# Altium schematic symbol library SDEC941-0B.SCHLIB: 46 symbols
Pins are listed as number, name and electrical type; pins without a type are passive.

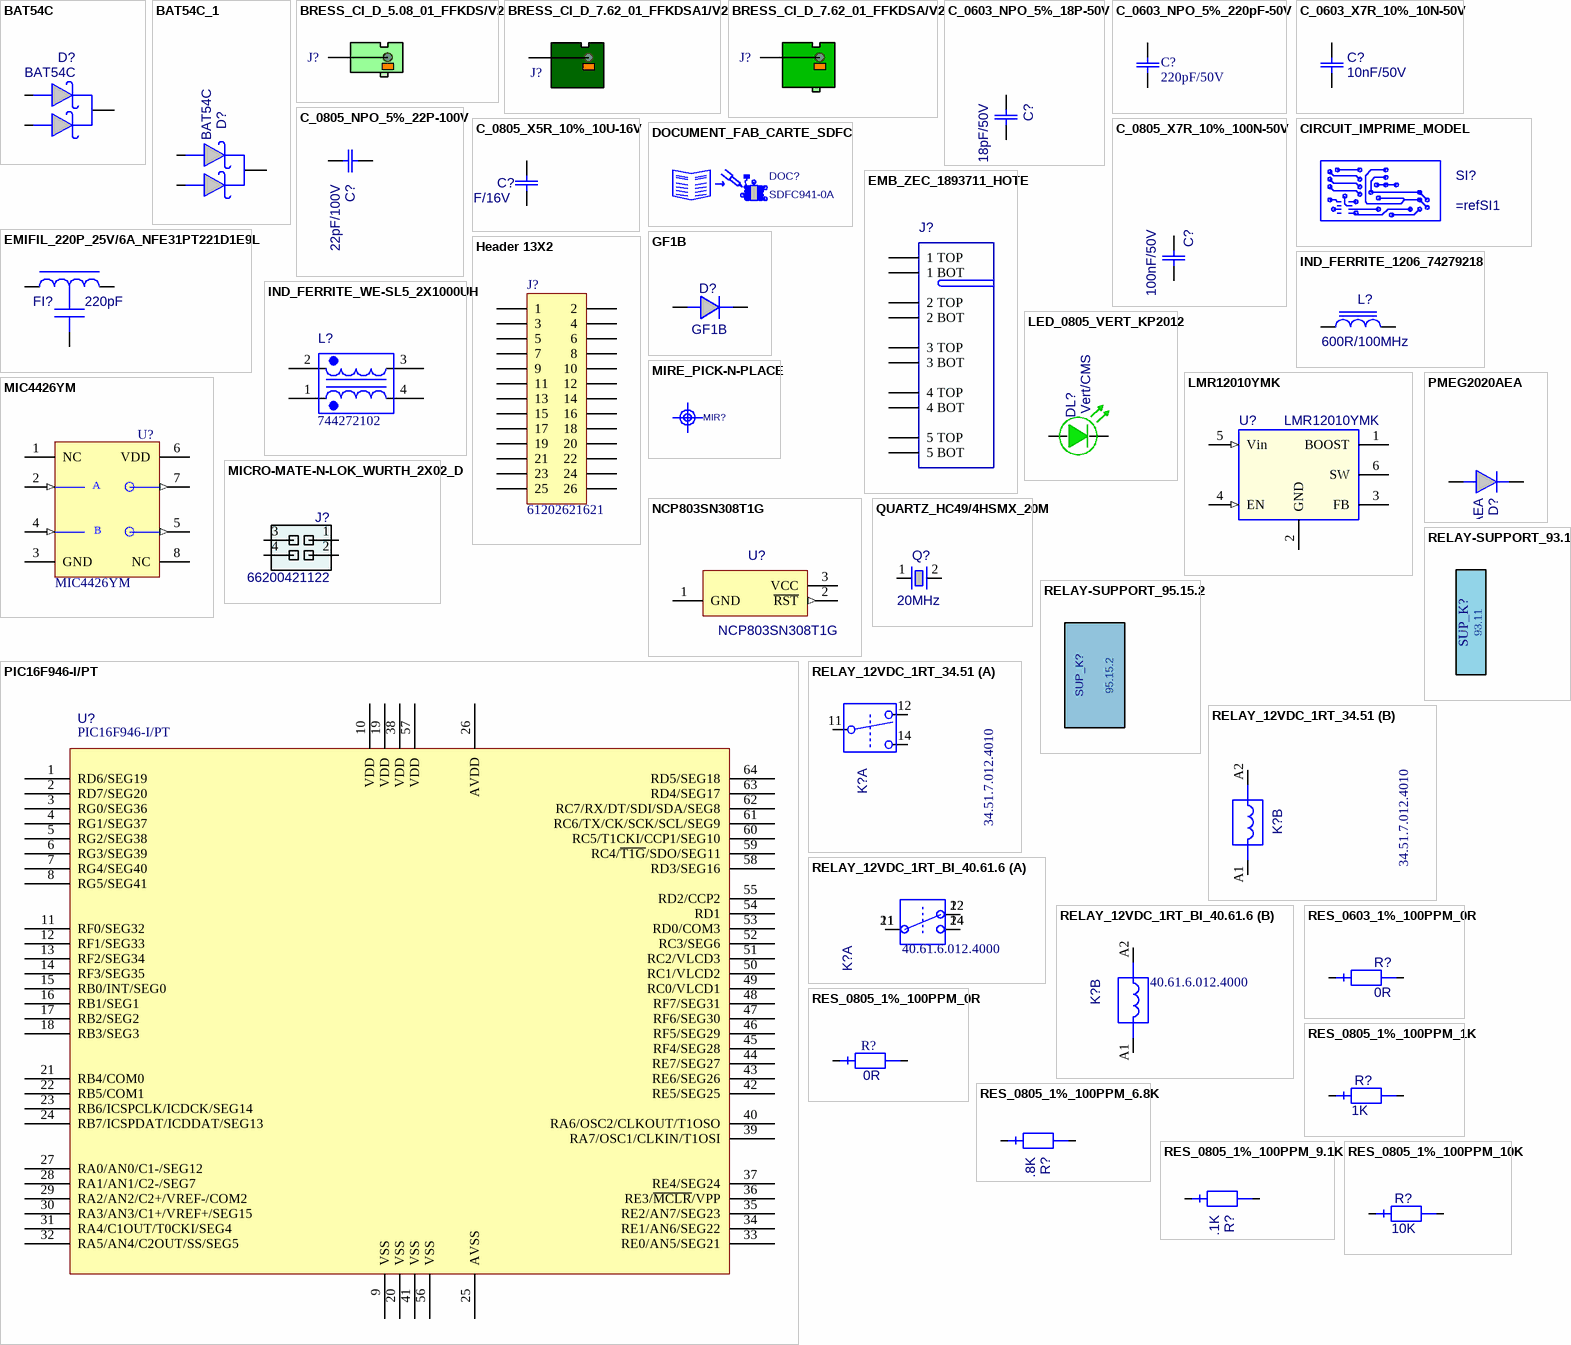
[diagram p0: symbols BAT54C to RES_0805_1%_100PPM_10K]

## BAT54C
designator D?
Diode Schottky double, BAT54 cathode com, Vrrm=30V, If=300mA, Vf=0.4Vmax, CMS; Creation: LJ (14/05/02); Reference: 000597/00; Boitier: SOT23_3L; Remarque: {Remarque}; Fabricant: NXP; Coeff: 1; Verification: LJ (14/05/02); Ref Fab: BAT54C; ComponentLink1URL: o:\_Documentation\Datasheets\NXP\BAT54_series.pdf; ComponentLink2URL: o:\_Documentation\Datasheets\_BOITIERS\ACTIF_CMS\SOT\SOT_23_3P_(Schneider).PDF; Config: *; ComponentLink1Description: Datasheet; ComponentLink2Description: Datasheet Boitier; Supplier 1: Farnell; Supplier Part Number 1: 1081192; Value: BAT54C
footprint SOT23_3L_ReflowSoldering
footprint SOT23_3L_WaveSoldering
pins: 1, 2, 3
1 alternate drawing of the same symbol

## BAT54C_1
designator D?, comment BAT54C
Diode Schottky double, BAT54 cathode com, Vrrm=30V, If=300mA, Vf=0.4Vmax, CMS; Creation: LJ (14/05/02); Reference: 000597/00; Boitier: SOT23_3L; Remarque: {Remarque}; Fabricant: NXP; Coeff: 1; Verification: LJ (14/05/02); Ref Fab: BAT54C; ComponentLink1URL: o:\_Documentation\Datasheets\NXP\BAT54_series.pdf; ComponentLink2URL: o:\_Documentation\Datasheets\_BOITIERS\ACTIF_CMS\SOT\SOT_23_3P_(Schneider).PDF; Config: *; ComponentLink1Description: Datasheet; ComponentLink2Description: Datasheet Boitier; Value: BAT54C; Supplier 1: Farnell; Supplier Part Number 1: 1081192
footprint SOT23_3L_ReflowSoldering
footprint SOT23_3L_WaveSoldering
pins: 1, 2, 3
1 alternate drawing of the same symbol

## BRESS_CI_D_5.08_01_FFKDS/V2
designator J?  (value not drawn)
Bornier à connexion par ressorts/déconnexion par levier, série FFKDS/V2, e5.08, 1x1pts, droit, juxtaposable, 320V/15A, AWG22~16, Vert/Orange; Creation: LJ (21/11/11); Boitier: 5.08x10_h15.8_e5.08_p1.3mm; Remarque: {Remarque}; Fabricant: Phoenix Contact; Ref Fab: 1790348; Coeff: 1; Value: FFKDS/V2-5,08; Verification: *; ComponentLink1URL: o:\_Documentation\Datasheets\Phoenix\FFKDS-V2_5,08_1790348.pdf; ComponentLink2URL: o:\_Documentation\Datasheets\_BOITIERS\; Config: *; ComponentLink1Description: Datasheet; ComponentLink2Description: Datasheet
footprint BRESS_FFKDS/V2-5,08_P1.3
footprint BRESS_FFKDS/V2-5,08_P1.4
pins: 1, 2

## BRESS_CI_D_7.62_01_FFKDSA1/V2
designator J?  (value not drawn)
Bornier à connexion par ressorts/déconnexion par levier, série FFKDSA1/V2, e7.62, 1x1pts, droit, juxtaposable, 500V/17.5A, AWG22~16, Vert/Orange; Creation: LJ (21/11/11); Boitier: 7.62x10_h15.8_e7.62_p1.3mm; Remarque: {Remarque}; Fabricant: Phoenix Contact; Ref Fab: 1790487; Coeff: 1; Value: FFKDSA1/V2-7,62; Verification: *; ComponentLink1URL: o:\_Documentation\Datasheets\Phoenix\FFKDSA1-V2_7,62_1790487.pdf; ComponentLink2URL: o:\_Documentation\Datasheets\_BOITIERS\; Config: *; ComponentLink1Description: Datasheet; ComponentLink2Description: Datasheet
footprint BRESS_FFKDSA1/V2-7,62_P1.3
footprint BRESS_FFKDSA1/V2-7,62_P1.4
pins: 1, 2

## BRESS_CI_D_7.62_01_FFKDSA/V2
designator J?  (value not drawn)
Bornier à connexion par ressorts/déconnexion par levier, série FFKDSA/V2, e7.62, 1x1pts, droit, juxtaposable, 500V/17.5A, AWG22~16, Vert/Orange; Creation: LJ (21/11/11); Boitier: 7.62x10_h15.8_e7.62_p1.3mm; Remarque: {Remarque}; Fabricant: Phoenix Contact; Ref Fab: 1790377; Coeff: 1; Value: FFKDSA/V2-7,62; Verification: *; ComponentLink1URL: o:\_Documentation\Datasheets\Phoenix\FFKDSA-V2_7,62_1790377.pdf; ComponentLink2URL: o:\_Documentation\Datasheets\_BOITIERS\; Config: *; ComponentLink1Description: Datasheet; ComponentLink2Description: Datasheet
footprint BRESS_FFKDSA/V2-7,62_P1.3
footprint BRESS_FFKDSA/V2-7,62_P1.4
pins: 1, 2

## C_0603_NPO_5%_18P-50V
designator C?  value 18pF/50V  (hidden comment: C_0603_NPO_5%_18P-50V)
Condensateur céramique, NPO, 5%, CMS 0603, 18pF/50V; Creation: FB (04/07/12); Boitier: 0603; Remarque: {Remarque}; Fabricant: Kemet; Ref Fab: C0603C180J5GAC; Coeff: 1; ComponentLink2URL: o:\_Documentation\Datasheets\_BOITIERS\PASSIF_CMS\; Config: *; ComponentLink1Description: Datasheet; ComponentLink2Description: Datasheet Boitier; Supplier 1: Farnell; Supplier Part Number 1: 1414620
footprint 0603_ReflowSoldering_CAP
footprint 0603_WaveSoldering_CAP
pins: 1, 2

## C_0603_NPO_5%_220pF-50V
designator C?  Capacitance: 220pF/50V  (hidden comment: C_0603_NPO_5%_220pF-50V)
Multilayer Ceramic Capacitors MLCC - SMD/SMT 50volts 220pF C0G 5%; Manufacturer: Kemet; Manufacturer Part Number: C0603C221J5GACTU; Temperature Coefficient: C0G, NP0; Supplier 1: Digi-Key; RoHS: RoHS Compliant; Category: Capacitors; Stock 1: 173034; Pricing 1: 1=0.1, 10=0.042, 50=0.0228, 100=0.0193, 250=0.01576, 500=0.01348, 1000=0.0105 (USD); Packaging: Cut Tape (CT); Part Status: Active; Tolerance: ±5%; Operating Temperature: -55°C ~ 125°C; Features: Low ESL; Ratings: -; Applications: General Purpose; Failure Rate: -; Mounting Type: Surface Mount, MLCC; Package / Case: 0603 (1608 Metric); Size / Dimension: 0.063" L x 0.031" W (1.60mm x 0.80mm); Height - Seated (Max): -; Thickness (Max): 0.034" (0.87mm); Lead Spacing: -; Lead Style: -; ComponentLink1URL: http://www.kemet.com/docfinder?Partnumber=C0603C221J5GACTU; ComponentLink1Description: http://www.kemet.com/docfinder?Partnumber=C0603C221J5GACTU; Supplier Part Number 1: 399-1066-1-ND
footprint 0603_ReflowSoldering_CAP (Footprint not found)
pins: 1, 2

## C_0603_X7R_10%_10N-50V
designator C?  value 10nF/50V  (hidden comment: C_0603_X7R_10%_10N-50V)
Condensateur céramique, X7R, 10%, CMS 0603; Creation: CHD; Boitier: 0603; Remarque: {Remarque}; Coeff: 1; Fabricant: Kemet; Ref Fab: C0603C103K5RAC; ComponentLink1URL: o:\_Documentation\Datasheets\Kemet\Condos_Ceramic_CMS.pdf; ComponentLink2URL: o:\_Documentation\Datasheets\_BOITIERS\PASSIF_CMS\; Config: *; ComponentLink1Description: Datasheet; ComponentLink2Description: Datasheet Boitier; Supplier 1: Farnell; Supplier Part Number 1: 1414609
footprint 0603_ReflowSoldering_CAP
footprint 0603_WaveSoldering_CAP
pins: 1, 2
1 alternate drawing of the same symbol

## C_0805_NPO_5%_22P-100V
designator C?  value 22pF/100V  (hidden comment: C_0805_NPO_5%_22P-100V)
Condensateur céramique, NPO, 5%, CMS 0805; Creation: LJ; Verification: LJ (28/05/04); Boitier: 0805; Remarque: {Remarque}; Fabricant: AVX; Ref Fab: 08051A220JAT2A; Coeff: 1; ComponentLink1URL: o:\_Documentation\Datasheets\BC_Components\Condo_CMS_NPO-X7R-Y5V.pdf; ComponentLink2URL: o:\_Documentation\Datasheets\_BOITIERS\PASSIF_CMS\RC_0805_(2x1,25)_(Schneider).PDF; Config: *; ComponentLink1Description: Datasheet; ComponentLink2Description: Datasheet Boitier; Supplier 1: Farnell; Supplier 2: Mouser; Supplier Part Number 1: 317500; Supplier Part Number 2: 581-08051A220J
footprint 0805_ReflowSoldering_CAP
footprint 0805_WaveSoldering_CAP
pins: 1, 2
1 alternate drawing of the same symbol

## C_0805_X5R_10%_10U-16V
designator C?  value 10uF/16V  (hidden comment: C_0805_X5R_10%_10U-16V)
Condensateur céramique, X5R, 10%, CMS 0805; Creation: LJ (12/09/11); Reference: 001715/00; Boitier: 0805; Remarque: {Remarque}; Coeff: 1; Fabricant: Murata; Ref Fab: GRM219R61C106KA73D; Verification: *; ComponentLink1URL: o:\_Documentation\Datasheets\; ComponentLink2URL: o:\_Documentation\Datasheets\_Boitiers\PASSIF_CMS\RC_0805_(2x1,25)_(Schneider).pdf; Config: *; ComponentLink1Description: Datasheet; ComponentLink2Description: Datasheet Boitier
footprint 0805_ReflowSoldering_CAP
footprint 0805_WaveSoldering_CAP
pins: 1, 2

## C_0805_X7R_10%_100N-50V
designator C?  value 100nF/50V  (hidden comment: C_0805_X7R_10%_100N-50V)
Condensateur céramique, X7R, 10%, CMS 0805; Creation: LJ; Verification: LJ (28/05/04); Reference: 000042/00; Boitier: 0805; Remarque: {Remarque}; Fabricant: AVX; Ref Fab: 08055C104KAT2A; Coeff: 1; ComponentLink1URL: o:\_Documentation\Datasheets\BC_Components\Condo_CMS_NPO-X7R-Y5V.pdf; ComponentLink2URL: o:\_Documentation\Datasheets\_BOITIERS\PASSIF_CMS\RC_0805_(2x1,25)_(Schneider).PDF; Config: *; ComponentLink1Description: Datasheet; ComponentLink2Description: Datasheet Boitier; Supplier 1: Farnell; Supplier Part Number 1: 499687
footprint 0805_ReflowSoldering_CAP
footprint 0805_WaveSoldering_CAP
pins: 1, 2

## CIRCUIT_IMPRIME_MODEL
designator SI?
Circuit Imprimé; Creation: LJ; Verification: LJ (15/11/04); Remarque: {Remarque}; Fabricant: Valentinéa; Coeff: 1; Value: *; Boitier: *; Ref Fab: =refSI1; ComponentLink1URL: \\SRV_backup\datasheet\; ComponentLink2URL: \\SRV_backup\datasheet\_BOITIERS\; Config: *; ComponentLink1Description: Datasheet; ComponentLink2Description: Datasheet Boitier; Reference: =refSI1
footprint CIRCUIT_IMPRIME_SI_STD

## DOCUMENT_FAB_CARTE_SDFC
designator DOC?  Reference: SDFC941-0A  (hidden comment: DOCUMENT_FAB_CARTE_SDFC)  (mechanical)
Document de Fabrication pour la Carte SC{Num SC}-{Version SC}; Creation: LJ; Coeff: 0; Verification: *; Boitier: *; Fabricant: *; Ref Fab: *; Config: *; ComponentLink1URL: http://192.168.0.202/index.php/Accueil; ComponentLink2URL: http://192.168.0.202/index.php/Accueil; ComponentLink1Description: Datasheet; ComponentLink2Description: Datasheet Boitier

## EMB_ZEC_1893711_HOTE
designator J?  (value not drawn)  (no BOM)
Implantation CI pour connecteur ZEC 1,0/5-ST-3,5 C1 R1,5 (ref 1893711); Creation: JPL (18/07/12); Fabricant: Phoenix Contact; Coeff: 1; Config: *; ComponentLink1Description: Datasheet; ComponentLink2Description: Datasheet Boitier
footprint EMB_ZEC_1893711_HOTE
footprint EMB_ZEC_1893711_HOTE_NOBOTT
footprint EMB_ZEC_1893711_HOTE+EMBASE3D
pins: 1 1 TOP, 2 2 TOP, 3 3 TOP, 4 4 TOP, 5 5 TOP, 6 1 BOT, 7 2 BOT, 8 3 BOT, 9 4 BOT, 10 5 BOT

## EMIFIL_220P_25V/6A_NFE31PT221D1E9L
designator FI?  value 220pF  (hidden comment: EMIFIL_220P_25V/6A_NFE31PT221D1E9L)
Filtre EMI selfique-capacitif, -20/+50%, 25Vcc/6A, -40/+85°C, 220pF; Creation: LJ; Boitier: 1206; Remarque: Anciennement série NFM60R...; Reference: 000785/00; Fabricant: Murata; Coeff: 1; Verification: *; Ref Fab: NFE31PT221D1E9L; ComponentLink1URL: o:\_Documentation\Datasheets\Murata\EMIFIL_NFE31P.pdf; ComponentLink2URL: o:\_Documentation\Datasheets\_BOITIERS\; Config: *; ComponentLink1Description: Datasheet; ComponentLink2Description: Datasheet Boitier
footprint NFE31P
pins: 1, 2, 3
2 alternate drawings of the same symbol

## GF1B
designator D?
Diode de Redressement, Vrrm=100V, If=1A, Vf=1.1V, CMS; Creation: LJ; Reference: 000919/00; Boitier: DO214BA; Fabricant: Fairchild; Coeff: 1; Ref Fab: GF1B; ComponentLink1URL: o:\_Documentation\Datasheets\Fairchild\GF1A-M.PDF; ComponentLink2URL: o:\_Documentation\Datasheets\_BOITIERS\ACTIF_CMS\; Config: *; ComponentLink1Description: Datasheet; ComponentLink2Description: Datasheet Boitier; Value: GF1B; Supplier 1: Farnell; Supplier 2: Mouser; Supplier Part Number 1: 1467477; Supplier Part Number 2: 512-GF1B
footprint DO214BA-P
pins: A, K
1 alternate drawing of the same symbol

## Header 13X2
designator J?, comment 61202621621
26 Positions Header, Shrouded Connector 0.100" (2.54mm) Through Hole Gold; Manufacturer: Wurth Electronics Inc; Supplier 1: Digi-Key; Supplier Part Number 1: 732-2097-ND; Manufacturer Part Number: 61202621621
footprint HDR2X13 (Connector; Header; 13x2 Position)
signal-integrity model Connector
pins: 1, 2, 3, 4, 5, 6, 7, 8, 9, 10, 11, 12, 13, 14, 15, 16, 17, 18, 19, 20, 21, 22, 23, 24, 25, 26

## IND_FERRITE_1206_74279218
designator L?  value 600R/100MHz  (hidden comment: IND_FERRITE_1206_74279218)
Inductance à ferrite multicouches CMS, imp=600R@100MHz, +/-25%, Rdc=100mR, I=2A; Creation: LJ (12/08/08); Reference: 000049/00; Boitier: 1206; Remarque: Alternative aux selfs de choc; Coeff: 1; Fabricant: Wurth Elektronik; Verification: *; ComponentLink1URL: o:\_Documentation\Datasheets\Wurth_Elektronik\74279218.pdf; ComponentLink2URL: o:\_Documentation\Datasheets\_Boitiers\PASSIF_CMS\RC_1206_(3,2x1,6)_(Schneider).pdf; Config: *; ComponentLink1Description: Datasheet; ComponentLink2Description: Datasheet Boitier; Ref Fab: 74279218
footprint 1206_ReflowSoldering_FERRITE
footprint 1206_WaveSoldering_FERRITE
pins: 1, 2

## IND_FERRITE_WE-SL5_2X1000UH
designator L?, comment 744272102
Common Mode Filters / Chokes WE-SL5 Bifilar 2x1000uH 950mA; Manufacturer: Wurth Electronics Inc; Filter Type: Signal Line; Number of Lines: 2; Impedance @ Frequency: 3.6 kOhm @ 100kHz; Inductance @ Frequency: 1mH @ 100kHz; DC Resistance (DCR) (Max): 180 mOhm; Voltage Rating - DC: 80V; Supplier 1: Digi-Key; Manufacturer Part Number: 744272102; RoHS: RoHS Compliant; Category: Filters; Stock 1: 4893; Pricing 1: 1=3.57, 10=3.255, 50=2.94, 100=2.835 (USD); Packaging: Cut Tape (CT); Part Status: Active; Current Rating (Max): 950mA; Voltage Rating - AC: -; Operating Temperature: -40°C ~ 125°C; Ratings: -; Approvals: -; Features: -; Mounting Type: Surface Mount; Size / Dimension: 0.394" L x 0.343" W (10.00mm x 8.70mm); Height (Max): 0.256" (6.50mm); Package / Case: Horizontal, 4 PC Pad; ComponentLink1URL: http://katalog.we-online.de/pbs/datasheet/744272102.pdf; ComponentLink1Description: http://katalog.we-online.de/pbs/datasheet/744272102.pdf; Supplier Part Number 1: 732-1493-1-ND
footprint 744272102 (Footprint not found)
pins: 1, 2, 3, 4

## LED_0805_VERT_KP2012
designator DL?  value Vert/CMS  (hidden comment: LED_0805_VERT_KP2012)
LED CMS 0805, Vert, Vf 2.5V@20mA (4-15mCd), 525nm, vue 120°; Creation: LJ (12/01/09); Reference: 000037/00; Boitier: 0805; Remarque: {Remarque}; Fabricant: Kingbright; Ref Fab: KP-2012SGC; Coeff: 1; Verification: *; ComponentLink1URL: o:\_Documentation\Datasheets\Kingbright\Leds_0805_Green_KP-2012SGC.pdf; ComponentLink2URL: o:\_Documentation\Datasheets\Kingbright\Leds_0805_Green_KP-2012SGC.pdf; Config: *; ComponentLink1Description: Datasheet; ComponentLink2Description: Datasheet Boitier; Supplier 1: Farnell; Supplier Part Number 1: 1318243
footprint LED_0805_KPx_Green
pins: A, K
1 alternate drawing of the same symbol

## LMR12010YMK
designator U?
Régulateur ajustable step down, 0.8~20V, 1A, Vin=3~20V, -40/+125°C, CMS; Creation: PDP (10/07/12); Verification: LJ (02/08/12); Boitier: TSOT-6; Remarque: {Remarque}; Coeff: 1; Fabricant: National Semiconductor; ComponentLink1URL: O:\_Documentation\Datasheets\National_SemiConductors\LMR12010.pdf; ComponentLink2URL: o:\_Documentation\Datasheets\_Boitiers\ACTIF_CMS\; ComponentLink1Description: Datasheet; ComponentLink2Description: Datasheet Boitier; Ref Fab: LMR12010YMK; Value: LMR12010YMK; Supplier 1: Farnell; Supplier Part Number 1: 2060645; Supplier 2: Mouser; Supplier Part Number 2: 926-LMR12010YMKENOPB
footprint SOT23_6L
pins: 1 BOOST, 2 GND (power), 3 FB, 4 EN (in), 5 Vin (in), 6 SW

## MIC4426YM
designator U?
Dual High-Speed 1.5A MOSFET Driver, CMS; Creation: CHD; Verification: LJ (); Boitier: SO8_L150; Remarque: {Remarque}; Fabricant: Micrel; Coeff: 1; Ref Fab: MIC4426YM; ComponentLink1URL: o:\_Documentation\Datasheets\; ComponentLink2URL: o:\_Documentation\Datasheets\_Boitiers\ACTIF_CMS\SOIC\SOIC_08_e1,27_L150_(Schneider).PDF; Config: *; ComponentLink1Description: Datasheet; ComponentLink2Description: Datasheet Boitier; Value: MIC4426YM
footprint SOIC_08_E1,27_L150_ReflowSoldering
footprint SOIC_08_E1,27_L150_WaveSoldering
footprint SOIC_08_E1,27_L150_WaveSoldering
pins: 1 NC, 2 INA (in), 3 GND (power), 4 INB (in), 5 ~{OUTB} (out), 6 VDD (power), 7 ~{OUTA} (out), 8 NC
text: A; B

## MICRO-MATE-N-LOK_WURTH_2X02_D
designator J?  value 66200421122  (hidden comment: MICRO-MATE-N-LOK_WURTH_2X02_D)
Embase type Micro Mate-n-Lok, e3mm, 4pts, droit, cont. étamés 20mR, 250V/5A, Iso 1500V, -40/+105°C; Creation: LJ (01/08/12); Boitier: Micro Mate-n-Lok 4 D; Remarque: {Remarque}; Fabricant: Wurth Elektronik; Coeff: 1; Ref Fab: 66200421122; ComponentLink1URL: o:\_Documentation\Datasheets\; ComponentLink2URL: o:\_Documentation\Datasheets\; Config: *; ComponentLink1Description: Datasheet; ComponentLink2Description: Datasheet Boitier
footprint MICRO-MATE-N-LOK_2X02_D_3-794630-4
footprint MICRO-MATE-N-LOK_WURTH+TYCO_2X02_D
pins: 1, 2, 3, 4

## MIRE_PICK-N-PLACE
designator MIR?  (value not drawn)
Mire pour machine de placement CMS "Pick'n Place"; Creation: LJ (25/10/12); Config: NC; Coeff: 0; Value: *
footprint MIRE_PICK-N-PLACE_D1MM_VE3MM

## NCP803SN308T1G
designator U?
Superviseur de Reset pour microcontrolleur 3.08V -Pin SOT-23, CMS; Boitier: SOT23_3L; Remarque: {Remarque}; Creation: CHD; Fabricant: ON; Coeff: 1; Ref Fab: NCP803SN308T1G; ComponentLink1URL: o:\_Documentation\Datasheets\; ComponentLink2URL: o:\_Documentation\Datasheets\_BOITIERS\ACTIF_CMS\SOT\SOT_23_3P_(Schneider).PDF; Config: *; ComponentLink1Description: Datasheet; Value: NCP803SN308T1G
footprint SOT23_3L_ReflowSoldering
footprint SOT23_3L_WaveSoldering
pins: 1 GND (power), 2 ~{RST} (out), 3 VCC (power)

## PIC16F946-I/PT
designator U?
Microcontrôleur 8bit; Creation: CHD; Boitier: QFP64_e0.50_12x12mm; Remarque: {Remarque}; Fabricant: Microchip; Coeff: 1; Ref Fab: PIC16F946-I/PT; ComponentLink1URL: o:\_Documentation\Datasheets\MicroChip\PIC16F913_914_916_917_946.pdf; ComponentLink2URL: o:\_Documentation\Datasheets\_Boitiers\; Config: *; ComponentLink1Description: Datasheet; ComponentLink2Description: Datasheet Boitier; Value: PIC16F946-I/PT
footprint QFP_064_E0,50_10X10MM
pins: 1 RD6/SEG19, 2 RD7/SEG20, 3 RG0/SEG36, 4 RG1/SEG37, 5 RG2/SEG38, 6 RG3/SEG39, 7 RG4/SEG40, 8 RG5/SEG41, 9 VSS, 10 VDD, 11 RF0/SEG32, 12 RF1/SEG33, 13 RF2/SEG34, 14 RF3/SEG35, 15 RB0/INT/SEG0, 16 RB1/SEG1, 17 RB2/SEG2, 18 RB3/SEG3, 19 VDD, 20 VSS, 21 RB4/COM0, 22 RB5/COM1, 23 RB6/ICSPCLK/ICDCK/SEG14, 24 RB7/ICSPDAT/ICDDAT/SEG13, 25 AVSS, 26 AVDD, 27 RA0/AN0/C1-/SEG12, 28 RA1/AN1/C2-/SEG7, 29 RA2/AN2/C2+/VREF-/COM2, 30 RA3/AN3/C1+/VREF+/SEG15, 31 RA4/C1OUT/T0CKI/SEG4, 32 RA5/AN4/C2OUT/SS/SEG5, 33 RE0/AN5/SEG21, 34 RE1/AN6/SEG22, 35 RE2/AN7/SEG23, 36 RE3/~{MCLR}/VPP, 37 RE4/SEG24, 38 VDD, 39 RA7/OSC1/CLKIN/T1OSI, 40 RA6/OSC2/CLKOUT/T1OSO, 41 VSS, 42 RE5/SEG25, 43 RE6/SEG26, 44 RE7/SEG27, 45 RF4/SEG28, 46 RF5/SEG29, 47 RF6/SEG30, 48 RF7/SEG31, 49 RC0/VLCD1, 50 RC1/VLCD2, 51 RC2/VLCD3, 52 RC3/SEG6, 53 RD0/COM3, 54 RD1, 55 RD2/CCP2, 56 VSS, 57 VDD, 58 RD3/SEG16, 59 RC4/~{T1G}/SDO/SEG11, 60 RC5/T1CKI/CCP1/SEG10, 61 RC6/TX/CK/SCK/SCL/SEG9, 62 RC7/RX/DT/SDI/SDA/SEG8, 63 RD4/SEG17, 64 RD5/SEG18
1 alternate drawing of the same symbol

## PMEG2020AEA
designator D?
Diode Schottky, Vrrm=20V, If=2A, Vf=450V, CMS; Creation: PDP 10/07/12; Verification: LJ (02/08/12); Boitier: SOD323; Remarque: {Remarque}; Coeff: 1; Fabricant: NXP; ComponentLink1URL: o:\_Documentation\Datasheets\NXP\PMEG2020AEA.PDF; ComponentLink2URL: o:\_Documentation\Datasheets\_BOITIERS\ACTIF_CMS\SOD\SOD_80_(MLL34)_(Schneider).PDF; Config: *; ComponentLink1Description: Datasheet; ComponentLink2Description: Datasheet Boitier; Ref Fab: PMEG2020AEA; Value: PMEG2020AEA; Supplier 1: Farnell; Supplier Part Number 1: 8737940; Supplier 2: Mouser; Supplier Part Number 2: 771-PMEG2020AEA-T/R
footprint SOD323_ReflowSoldering
footprint SOD323_WaveSoldering
pins: A, K

## QUARTZ_HC49/4HSMX_20M
designator Q?  value 20MHz  (hidden comment: QUARTZ_HC49/4HSMX_20M)
Quartz CMS série HCM49 (équiv HC49/US), -10/+60°C, +/-30ppm, 18pF; Creation: FB (04/09/12); Fabricant: Citizen; Ref Fab: HCM49 20.000MABJ-UT; Coeff: 1; Verification: *; Boitier: HC49/4HSMX; Remarque: *; ComponentLink1URL: O:\_Documentation\Datasheets\Citizen\Quartz_HC49-US_HCM49.pdf; ComponentLink2URL: o:\_Documentation\Datasheets\_BOITIERS\; Config: *; ComponentLink1Description: Datasheet; ComponentLink2Description: Datasheet Boitier; Supplier 1: Farnell; Supplier Part Number 1: 1611736; Supplier 2: Mouser; Supplier Part Number 2: 695-HCM49-20-U
footprint QUARTZ_HC49_11.5X5_CMS
pins: 1, 2
1 alternate drawing of the same symbol

## RELAY-SUPPORT_93.11
designator SUP_K?  value 93.11  (hidden comment: RELAY-SUPPORT_93.11)
Suppor série 93 pour relais Finder séries 34, 250V/6A, Bleu; Creation: LJ (24/11/11); Remarque: {Remarque}; Coeff: 1; Fabricant: Finder; Ref Fab: 93.11; ComponentLink1URL: o:\_Documentation\Datasheets\Finder\Relais_Serie_34.pdf; ComponentLink2URL: o:\_Documentation\Datasheets\; Config: *; ComponentLink1Description: Datasheet; ComponentLink2Description: Datasheet Boitier
footprint RELAY-SUPPORT_FINDER_SERIE93
1 alternate drawing of the same symbol

## RELAY-SUPPORT_95.15.2
designator SUP_K?  value 95.15.2  (hidden comment: RELAY-SUPPORT_95.15.2)
Suppor série 95 pour relais Finder séries 40, 250V/10A, Bleu, sans Etrier; Creation: LJ (11/06/12); Remarque: {Remarque}; Coeff: 1; Fabricant: Finder; Ref Fab: 95.15.2; ComponentLink1URL: o:\_Documentation\Datasheets\Finder\Relais_Serie_40.pdf; ComponentLink2URL: o:\_Documentation\Datasheets\; Config: *; ComponentLink1Description: Datasheet; ComponentLink2Description: Datasheet Boitier
footprint RELAY-SUPPORT_FINDER_SERIE95
1 alternate drawing of the same symbol

## RELAY_12VDC_1RT_34.51
designator K?  value 34.51.7.012.4010  (hidden comment: RELAY_12VDC_1RT_34.51)
Relais 1RT, 12Vdc, série 34.51, Rc=1940R, Sw:250Vac/6A, Ron=? (AgSnO2); Creation: CHD; Verification: LJ (24/11/11); Boitier: DIP12 Form C; Remarque: {Remarque}; Fabricant: Finder; Coeff: 1; Ref Fab: 34.51.7.012.4010; ComponentLink1URL: o:\_Documentation\Datasheets\Finder\Relais_Serie_34.pdf; ComponentLink2URL: o:\_Documentation\Datasheets\_BOITIERS\; Config: *; ComponentLink1Description: Datasheet; ComponentLink2Description: Datasheet Boitier
footprint RELAY_FINDER_34.51
footprint RELAY_FINDER_34.51_+SUPPORT_93
part A pins: 11 COM, 12 NC, 14 NO
part B pins: A1, A2

## RELAY_12VDC_1RT_BI_40.61.6
designator K?  value 40.61.6.012.4000  (hidden comment: RELAY_12VDC_1RT_BI_40.61.6)
Relais 1RT, 12Vdc, série 40.61.6 (bistable), Rc=900R, Sw:250Vac/16A, Ron=? (AgSnO2); Creation: CHD; Verification: LJ (24/11/11); Boitier: type DIP16; Remarque: {Remarque}; Fabricant: Finder; Coeff: 1; Ref Fab: 40.61.6.012.4000; ComponentLink1URL: o:\_Documentation\Datasheets\Finder\Relais_Serie_40.pdf; ComponentLink2URL: o:\_Documentation\Datasheets\_BOITIERS\; Config: *; ComponentLink1Description: Datasheet; ComponentLink2Description: Datasheet Boitier
footprint RELAY_FINDER_40.61
footprint RELAY_FINDER_40.61_+SUPPORT_95
part A pins: 11 COM, 12 NC, 14 NO, 21 COM, 22 NC, 24 NO
part B pins: A1, A2

## RES_0603_1%_100PPM_0R
designator R?  value 0R  (hidden comment: RES_0603_1%_100PPM_0R)
Résistance, 0.100W, 1%, 100ppm, 75V, 0R; Creation: FB (04/07/12); Boitier: 0603; Remarque: {Remarque}; Fabricant: Vishay; Ref Fab: CRCW06030000Z0EA; Coeff: 1; Verification: *; ComponentLink1URL: O:\_Documentation\Datasheets\Vishay\Resistances_D-CRCWe3.pdf; ComponentLink2URL: o:\_Documentation\Datasheets\_BOITIERS\PASSIF_CMS\; Config: *; ComponentLink1Description: Datasheet; ComponentLink2Description: Datasheet Boitier; Supplier 1: Farnell; Supplier Part Number 1: 1469739
footprint 0603_ReflowSoldering_RES
footprint 0603_WaveSoldering_RES
pins: 1, 2
1 alternate drawing of the same symbol

## RES_0805_1%_100PPM_0R
designator R?  value 0R  (hidden comment: RES_0805_1%_100PPM_0R)
Résistance CMS 0805, 0.125W, 1%, 100ppm, 150V; Creation: LJ (06/02/09); Reference: 000052/00; Boitier: 0805; Remarque: {Remarque}; Fabricant: Welwyn; Ref Fab: WCR0805-R005JI; Coeff: 1; Verification: *; ComponentLink1URL: o:\_Documentation\Datasheets\Welwyn\Resistances_CMS_General.pdf; ComponentLink2URL: o:\_Documentation\Datasheets\_BOITIERS\PASSIF_CMS\RC_0805_(2x1,25)_(Schneider).PDF; Config: *; ComponentLink1Description: Datasheet; ComponentLink2Description: Datasheet Boitier; Supplier 1: Farnell; Supplier Part Number 1: 1099786
footprint 0805_ReflowSoldering_RES
footprint 0805_ReflowSoldering_RES_ATEX
footprint 0805_WaveSoldering_RES
pins: 1, 2
1 alternate drawing of the same symbol

## RES_0805_1%_100PPM_1K
designator R?  value 1K  (hidden comment: RES_0805_1%_100PPM_1K)
Résistance CMS 0805, 0.125W, 1%, 100ppm, 150V; Creation: LJ (06/02/09); Reference: 000059/00; Boitier: 0805; Remarque: {Remarque}; Fabricant: Vishay; Ref Fab: CRCW08051K00FKEA; Coeff: 1; Verification: *; ComponentLink1URL: o:\_Documentation\Datasheets\BC_Components\Resistances_ThickFilmFlatChip_0402-0603-0805-1206.pdf; ComponentLink2URL: o:\_Documentation\Datasheets\_BOITIERS\PASSIF_CMS\RC_0805_(2x1,25)_(Schneider).PDF; Config: *; ComponentLink1Description: Datasheet; ComponentLink2Description: Datasheet Boitier; Supplier 1: Farnell; Supplier 2: Mouser; Supplier Part Number 1: 1469847; Supplier Part Number 2: 71-CRCW0805-1.0K-E3
footprint 0805_ReflowSoldering_RES
footprint 0805_ReflowSoldering_RES_ATEX
footprint 0805_WaveSoldering_RES
pins: 1, 2
1 alternate drawing of the same symbol

## RES_0805_1%_100PPM_6.8K
designator R?  value 6.8K  (hidden comment: RES_0805_1%_100PPM_6.8K)
Résistance CMS 0805, 0.125W, 1%, 100ppm, 150V; Creation: LJ (06/02/09); Reference: 000129/00; Boitier: 0805; Remarque: {Remarque}; Fabricant: Yageo; Ref Fab: RC0805FR-076K8L; Coeff: 1; Verification: *; ComponentLink1URL: o:\_Documentation\Datasheets\BC_Components\Resistances_ThickFilmFlatChip_0402-0603-0805-1206.pdf; ComponentLink2URL: o:\_Documentation\Datasheets\_BOITIERS\PASSIF_CMS\RC_0805_(2x1,25)_(Schneider).PDF; Config: *; ComponentLink1Description: Datasheet; ComponentLink2Description: Datasheet Boitier; Supplier 1: Farnell; Supplier Part Number 1: 9237739; Supplier 2: Mouser; Supplier Part Number 2: 603-RC0805FR-076K8L
footprint 0805_ReflowSoldering_RES
footprint 0805_ReflowSoldering_RES_ATEX
footprint 0805_WaveSoldering_RES
pins: 1, 2
1 alternate drawing of the same symbol

## RES_0805_1%_100PPM_9.1K
designator R?  value 9.1K  (hidden comment: RES_0805_1%_100PPM_9.1K)
Résistance CMS 0805, 0.125W, 1%, 100ppm, 150V; Creation: LJ (06/02/09); Reference: 000144/00; Boitier: 0805; Remarque: {Remarque}; Coeff: 1; Fabricant: Yageo; Ref Fab: RC0805FR-079K1L; Verification: *; ComponentLink1URL: o:\_Documentation\Datasheets\BC_Components\Resistances_ThickFilmFlatChip_0402-0603-0805-1206.pdf; ComponentLink2URL: o:\_Documentation\Datasheets\_BOITIERS\PASSIF_CMS\RC_0805_(2x1,25)_(Schneider).PDF; Config: *; ComponentLink1Description: Datasheet; ComponentLink2Description: Datasheet Boitier; Supplier 1: Mouser; Supplier Part Number 1: 603-RC0805FR-079K1L
footprint 0805_ReflowSoldering_RES
footprint 0805_ReflowSoldering_RES_ATEX
footprint 0805_WaveSoldering_RES
pins: 1, 2
1 alternate drawing of the same symbol

## RES_0805_1%_100PPM_10K
designator R?  value 10K  (hidden comment: RES_0805_1%_100PPM_10K)
Résistance CMS 0805, 0.125W, 1%, 100ppm, 150V; Creation: LJ (06/02/09); Reference: 000063/00; Boitier: 0805; Remarque: {Remarque}; Fabricant: Yageo; Ref Fab: RC0805FR-0710KL; Coeff: 1; Verification: *; ComponentLink1URL: o:\_Documentation\Datasheets\BC_Components\Resistances_ThickFilmFlatChip_0402-0603-0805-1206.pdf; ComponentLink2URL: o:\_Documentation\Datasheets\_BOITIERS\PASSIF_CMS\RC_0805_(2x1,25)_(Schneider).PDF; Config: *; ComponentLink1Description: Datasheet; ComponentLink2Description: Datasheet Boitier; Supplier 1: Farnell; Supplier Part Number 1: 9237755
footprint 0805_ReflowSoldering_RES
footprint 0805_ReflowSoldering_RES_ATEX
footprint 0805_WaveSoldering_RES
pins: 1, 2
1 alternate drawing of the same symbol

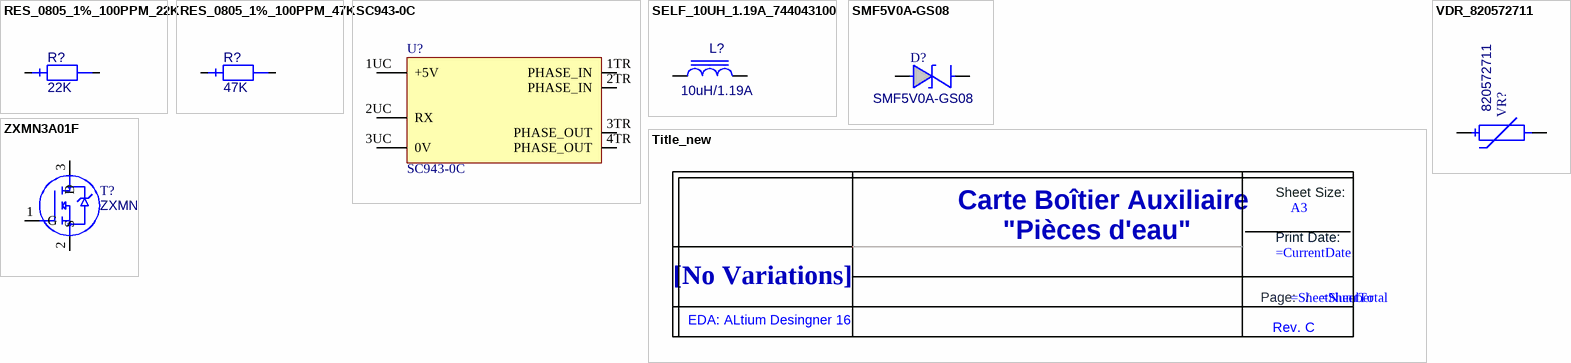
[diagram p1: symbols RES_0805_1%_100PPM_22K to ZXMN3A01F]

## RES_0805_1%_100PPM_22K
designator R?  value 22K  (hidden comment: RES_0805_1%_100PPM_22K)
Résistance CMS 0805, 0.125W, 1%, 100ppm, 150V; Creation: LJ (06/02/09); Reference: 000137/00; Boitier: 0805; Remarque: {Remarque}; Fabricant: Yageo; Ref Fab: RC0805FR-0722KL; Coeff: 1; Verification: *; ComponentLink1URL: o:\_Documentation\Datasheets\BC_Components\Resistances_ThickFilmFlatChip_0402-0603-0805-1206.pdf; ComponentLink2URL: o:\_Documentation\Datasheets\_BOITIERS\PASSIF_CMS\RC_0805_(2x1,25)_(Schneider).PDF; Config: *; ComponentLink1Description: Datasheet; ComponentLink2Description: Datasheet Boitier; Supplier 1: Farnell; Supplier Part Number 1: 9237798; Supplier 2: Mouser; Supplier Part Number 2: 603-RC0805FR-0722KL
footprint 0805_ReflowSoldering_RES
footprint 0805_ReflowSoldering_RES_ATEX
footprint 0805_WaveSoldering_RES
pins: 1, 2
1 alternate drawing of the same symbol

## RES_0805_1%_100PPM_47K
designator R?  value 47K  (hidden comment: RES_0805_1%_100PPM_47K)
Résistance CMS 0805, 0.125W, 1%, 100ppm, 150V; Creation: LJ (06/02/09); Reference: 000141/00; Boitier: 0805; Remarque: {Remarque}; Coeff: 1; Fabricant: Yageo; Ref Fab: C0805FR-0747KL; Verification: *; ComponentLink1URL: o:\_Documentation\Datasheets\BC_Components\Resistances_ThickFilmFlatChip_0402-0603-0805-1206.pdf; ComponentLink2URL: o:\_Documentation\Datasheets\_BOITIERS\PASSIF_CMS\RC_0805_(2x1,25)_(Schneider).PDF; Config: *; ComponentLink1Description: Datasheet; ComponentLink2Description: Datasheet Boitier
footprint 0805_ReflowSoldering_RES
footprint 0805_ReflowSoldering_RES_ATEX
footprint 0805_WaveSoldering_RES
pins: 1, 2
1 alternate drawing of the same symbol

## SC943-0C
designator U?
Carte gradateur; Boitier: SI943C; Coeff: 1; Fabricant: Valentinéa; Remarque: {Remarque}; Ref Fab: SC943-0C; Value: SC943-0C
footprint SI943C_REV_A (créé par FB (17/06/13) = copie de SI943B_REV_B)
pins: 1TR PHASE_IN, 1UC +5V (power), 2TR PHASE_IN, 2UC RX (power), 3TR PHASE_OUT, 3UC 0V (power), 4TR PHASE_OUT

## SELF_10UH_1.19A_744043100
designator L?  value 10uH/1.19A  (hidden comment: SELF_10UH_1.19A_744043100)
Inductance bobinée CMS, 10uH +/- 10%, I=1.19A, Rdc=0.095R, SRF=40MHz, -40/+85°C; Creation: LJ (02/08/12); Boitier: 4.8x4.8_h2.8mm; Coeff: 1; Fabricant: Wurth Elektronik; Verification: *; ComponentLink1URL: O:\_Documentation\Datasheets\Wurth_Elektronik\744043100.pdf; ComponentLink2URL: O:\_Documentation\Datasheets\Wurth_Elektronik\744043100.pdf; Remarque: *; Config: *; ComponentLink1Description: Datasheet; ComponentLink2Description: Datasheet Boitier; Ref Fab: 744043100
footprint SELF_WE-TPC_4.8x4.78_(type4828)
pins: 1, 2, 3 hidden, 4 hidden, 5 hidden, 6 hidden

## SMF5V0A-GS08
designator D?
Diode Transil/TVS unidirectionnelle (A), 200W, 5V, CMS; Creation: LJ; Boitier: DO219AB/SMF; Remarque: {Remarque}; Fabricant: Vishay; Coeff: 1; Verification: *; Ref Fab: SMF5V0A-GS08; ComponentLink1URL: o:\_Documentation\Datasheets\Vishay\SMF5V0A~51A.pdf; ComponentLink2URL: o:\_Documentation\Datasheets\_BOITIERS\; Config: *; ComponentLink1Description: Datasheet; ComponentLink2Description: Datasheet Boitier; Value: SMF5V0A-GS08; Supplier 1: Farnell; Supplier 2: Mouser; Supplier Part Number 1: 1617696; Supplier Part Number 2: 78-SMF5V0A
footprint DO219AB-SMF-P_ReflowSoldering
pins: A, K
1 alternate drawing of the same symbol

## Title_new
designator Title_new?, comment DNI  (value not drawn)  (graphical)
text: Sheet Size:; Carte Boîtier Auxiliaire; A3; "Pièces d'eau"; Print Date:; [No Variations]; Page:; /; EDA: ALtium Desingner 16; Rev. C

## VDR_820572711
designator VR?  value 820572711  (hidden comment: VDR_820572711)
Varistance disque 275Vac, 350Vdc, 33J, Vbreak=430V@1mA, Vclamp=710V@10A, Ipeak=1200A; Creation: LJ (12/01/12); Reference: {Reference}; Boitier: d7_t4.6_h13_e5mm; Remarque: {Remarque}; Fabricant: Wurth Elektronik; Coeff: 1; Ref Fab: 820572711; ComponentLink1URL: o:\_Documentation\Datasheets\Wurth_Elektronik\Varistance_820572711.pdf; ComponentLink2URL: o:\_Documentation\Datasheets\; Config: *; ComponentLink1Description: Datasheet; ComponentLink2Description: Datasheet Boitier
footprint VDR_Serie_820_d7_h13_e5mm
pins: 1, 2
1 alternate drawing of the same symbol

## ZXMN3A01F
designator T?
Transistor MOSN logique, Vdss=30V, Id=2A, Rdson=0.12R, CMS; Boitier: SOT23_3L; Remarque: {Remarque}; Creation: CHD; Fabricant: Zetex; Coeff: 1; Ref Fab: ZXMN3A01F; ComponentLink1URL: o:\_Documentation\Datasheets\; ComponentLink2URL: o:\_Documentation\Datasheets\_BOITIERS\ACTIF_CMS\SOT\SOT_23_3P_(Schneider).PDF; Config: *; ComponentLink1Description: Datasheet; Value: ZXMN3A01F; Supplier 1: Farnell; Supplier 2: Mouser; Supplier Part Number 1: 9525734; Supplier Part Number 2: 522-ZXMN3A01FTA
footprint SOT23_3L_ReflowSoldering
footprint SOT23_3L_WaveSoldering
pins: 1 G, 2 S, 3 D